# Altium footprint library CONNECTOR.PCBLIB: 232 footprints (part 12 of 15)
Each footprint in its own frame and in the unit in brackets; x right, y up, seen from the top. Pads: shape width x height; smd on the part's side, far side on the other; paste and mask are expansions set on the pad; w line width, h text height; cw(c..) or ccw(c..) is an arc to the next point about the centre after c.
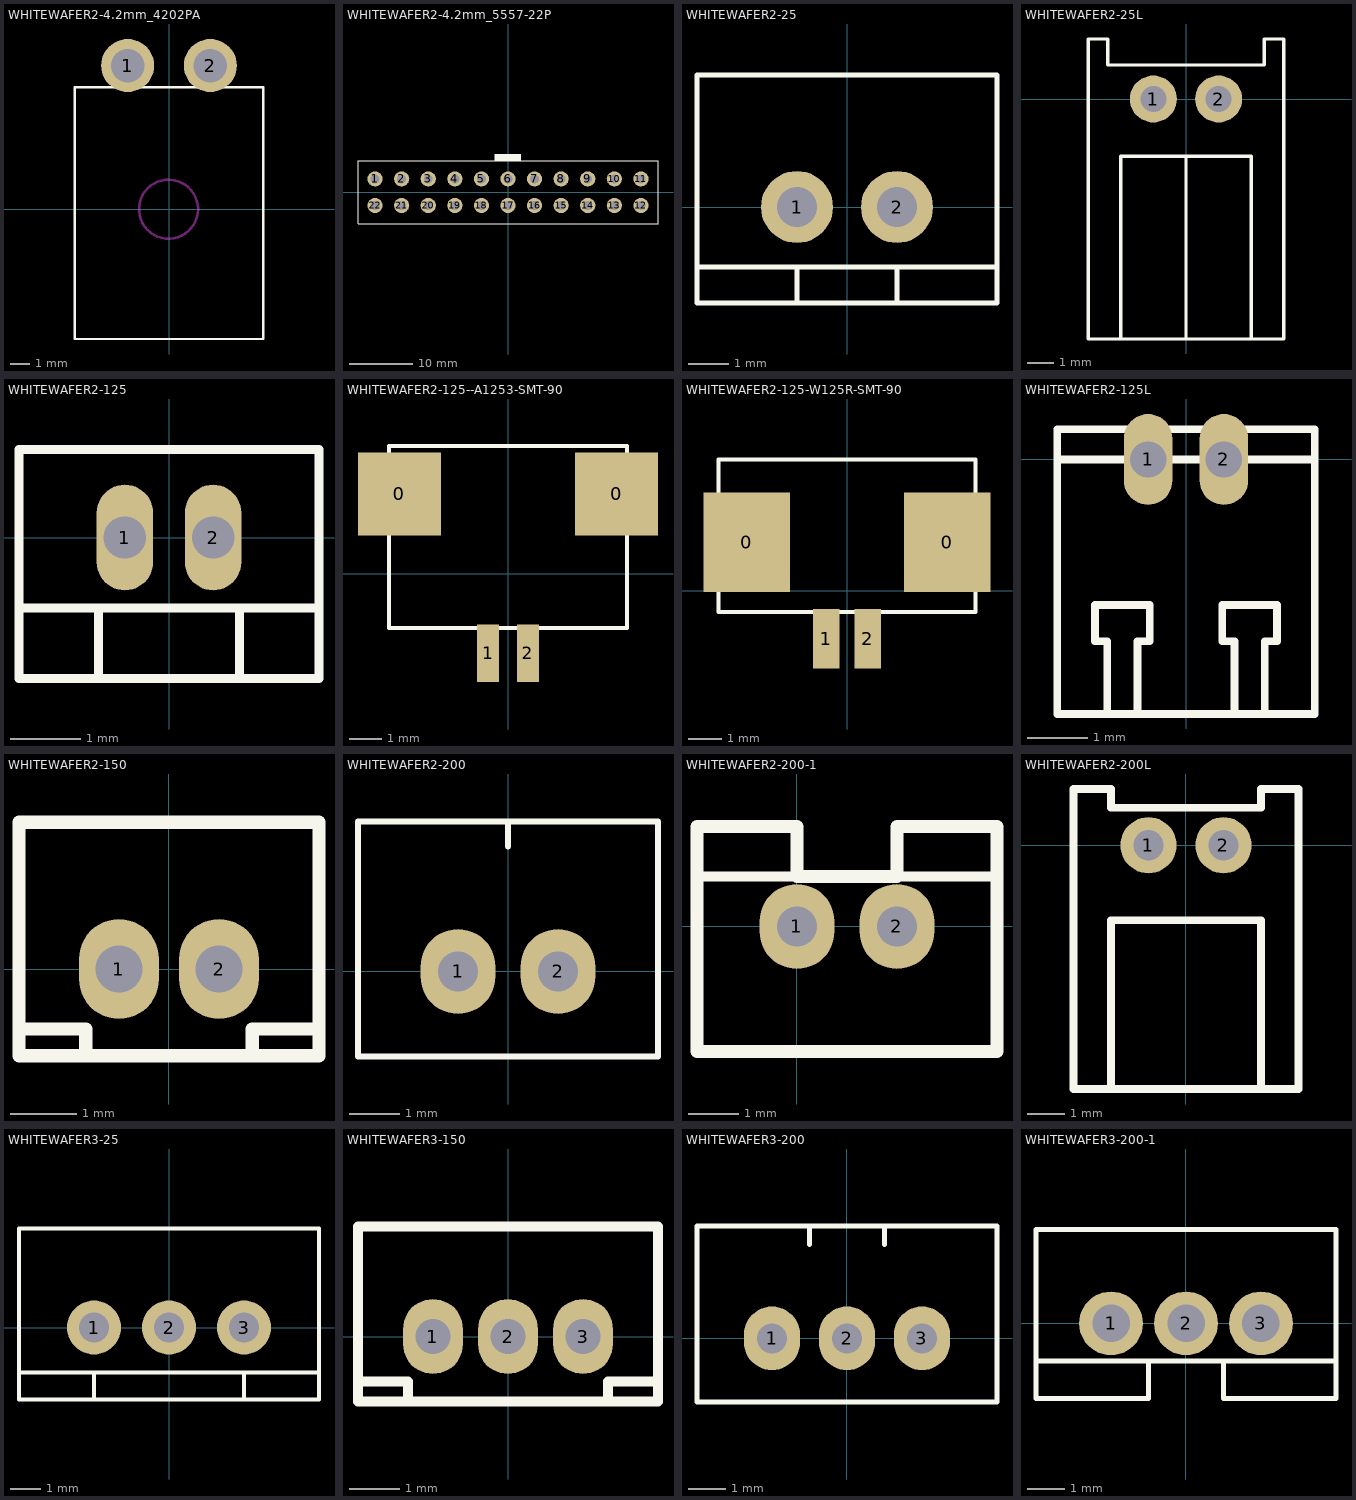
[diagram p11: the footprints below, top view; thin cyan lines are the x and y axes]

## WHITEWAFER2-4.2mm_4202PA [mm] "WHITEWAFER2-4.2mm_4202PA"
pads (2):
  round 2.7 hole 1.7: 1(-2.1,7.3) 2(2.1,7.3)
TopOverlay:
  lines w0.127: -4.8,-6.6 4.8,-6.6 4.8,6.2 -4.8,6.2 -4.8,-6.6
KeepOutLayer:
  circle w0.127: c-0.025,0 r1.5

## WHITEWAFER2-4.2mm_5557-22P [mm] "WHITEWAFER2-4.2mm_5557-22P"
pads (22):
  round 2.4 hole 1.4: 1(-21,2.1) 2(-16.8,2.1) 3(-12.6,2.1) 4(-8.4,2.1) 5(-4.2,2.1) 6(0,2.1) 7(4.2,2.1) 8(8.4,2.1) 9(12.6,2.1) 10(16.8,2.1) 11(21,2.1) 12(21,-2.1) 13(16.8,-2.1) 14(12.6,-2.1) 15(8.4,-2.1) 16(4.2,-2.1) 17(0,-2.1) 18(-4.2,-2.1) 19(-8.4,-2.1) 20(-12.6,-2.1) 21(-16.8,-2.1) 22(-21,-2.1)
TopOverlay:
  rectangle: -2,5 1.95,6
  lines w0.127: -2,5 -2,6 2,6 2,5 ; -23.7,-5 -23.7,5 23.7,5 23.7,-5 -23.7,-5

## WHITEWAFER2-25 [mm]
pads (2):
  round 1.8 hole 1: 1(-1.25,0) 2(1.25,0)
TopOverlay:
  lines w0.127: -3.75,-1.5 -1.25,-1.5 ; -1.25,-2.4 -1.25,-1.5 ; 1.25,-2.4 1.25,-1.5 ; 3.75,-1.5 -1.25,-1.5 ; -3.75,-2.4 3.75,-2.4 3.75,3.3 -3.75,3.3 -3.75,-2.4

## WHITEWAFER2-25L [mm]
pads (2):
  round 1.8 hole 1: 1(-1.25,0) 2(1.25,0)
TopOverlay:
  lines w0.127: -2.5,-9.2 -2.5,-2.2 2.5,-2.2 2.5,-9.2 ; 0,-9.2 0,-2.2 ; -3.75,-9.2 -3.75,2.3 -3,2.3 -3,1.3 3,1.3 3,2.3 3.75,2.3 3.75,-9.2 -3.75,-9.2

## WHITEWAFER2-125 [mm]
pads (2):
  oval 0.8x1.5 hole 0.6: 1(-0.625,0) 2(0.625,0)
TopOverlay:
  lines w0.127: -2.125,-1 2.125,-1 ; -1,-1 -1,-2 ; 1,-1 1,-2 ; -1,-2 1,-2 ; -1,-2 -2.125,-2 -2.125,1.25 2.125,1.25 2.125,-2 1,-2

## WHITEWAFER2-125--A1253-SMT-90 [mm]
pads (4):
  rect 2.6x2.6 smd: 0(-3.4,2.5) 0(3.4,2.5)
  rect 0.7x1.8 smd: 1(-0.625,-2.5) 2(0.625,-2.5)
TopOverlay:
  lines w0.127: -3.725,-1.7 -3.725,4 3.725,4 3.725,-1.7 -3.725,-1.7

## WHITEWAFER2-125-W125R-SMT-90 [mm]
pads (4):
  rect 2.6x3 smd: 0(-3.025,1.45) 0(3.025,1.45)
  rect 0.8x1.8 smd: 1(-0.625,-1.45) 2(0.625,-1.45)
TopOverlay:
  lines w0.127: -3.875,-0.65 -3.875,3.95 3.875,3.95 3.875,-0.65 -3.875,-0.65

## WHITEWAFER2-125L [mm]
pads (2):
  oval 0.8x1.5 hole 0.6: 1(-0.625,0) 2(0.625,0)
TopOverlay:
  lines w0.127: -1.3,-4.2 -1.3,-3 -1.5,-3 -1.5,-2.4 -0.6,-2.4 -0.6,-3 -0.8,-3 -0.8,-4.2 ; 0.8,-4.2 0.8,-3 0.6,-3 0.6,-2.4 1.5,-2.4 1.5,-3 1.3,-3 1.3,-4.2 ; -2.125,0 -2.125,-4.2 2.125,-4.2 2.125,0 ; -2.125,0 2.125,0 ; -2.125,0 -2.125,0.5 2.125,0.5 2.125,0

## WHITEWAFER2-150 [mm]
pads (2):
  oval 1.2x1.5 hole 0.7: 1(-0.75,0) 2(0.75,0)
TopOverlay:
  lines w0.2: -2.25,-0.9 -1.25,-0.9 -1.25,-1.3 ; 1.25,-1.3 1.25,-0.9 2.25,-0.9 ; -2.25,-1.3 -2.25,2.2 2.25,2.2 2.25,-1.3 -2.25,-1.3

## WHITEWAFER2-200 [mm]
pads (2):
  oval 1.5x1.7 hole 0.8: 1(-1,0) 2(1,0)
TopOverlay:
  lines w0.127: 0,2.5 0,3 ; -3,-1.7 -3,3 3,3 3,-1.7 -3,-1.7

## WHITEWAFER2-200-1 [mm]
pads (2):
  oval 1.5x1.7 hole 0.8: 1(0,0) 2(2,0)
TopOverlay:
  lines w0.203: -2,1 4,1
  lines w0.254: -2,-2.5 -2,2 0,2 0,1 2,1 2,2 4,2 4,-2.5 -2,-2.5

## WHITEWAFER2-200L [mm]
pads (2):
  round 1.5 hole 0.8: 1(-1,0) 2(1,0)
TopOverlay:
  lines w0.203: -2,-6.5 -2,-2 2,-2 2,-6.5 ; -3,-6.5 3,-6.5 3,1.5 2,1.5 2,1 -2,1 -2,1.5 -3,1.5 -3,0 -3,-6.5

## WHITEWAFER3-25 [mm]
pads (3):
  round 1.8 hole 1: 1(-2.5,0) 2(0,0) 3(2.5,0)
TopOverlay:
  lines w0.127: -5,-1.5 -2.5,-1.5 ; -2.5,-2.4 -2.5,-1.5 ; 2.5,-2.4 2.5,-1.503 ; 5,-1.5 -2.5,-1.5 ; -5,-2.4 5,-2.4 5,3.3 -5,3.3 -5,-2.4

## WHITEWAFER3-150 [mm]
pads (3):
  oval 1.2x1.5 hole 0.7: 1(-1.5,0) 2(0,0) 3(1.5,0)
TopOverlay:
  lines w0.2: -3,-0.9 -2,-0.9 -2,-1.3 ; 2,-1.3 2,-0.9 3,-0.9 ; -3,-1.3 -3,2.2 3,2.2 3,-1.3 -3,-1.3

## WHITEWAFER3-200 [mm]
pads (3):
  oval 1.5x1.7 hole 0.8: 1(-2,0) 2(0,0) 3(2,0)
TopOverlay:
  lines w0.127: -1,2.5 -1,3 ; 1,2.5 1,3 ; -4,-1.7 -4,3 4,3 4,-1.7 -4,-1.7

## WHITEWAFER3-200-1 [mm]
pads (3):
  round 1.7 hole 1: 1(-2,0) 2(0,0) 3(2,0)
TopOverlay:
  lines w0.127: -4,-1 -1,-1 ; 1,-1 1,-2 4,-2 4,2.5 -4,2.5 -4,-2 -1,-2 -1,-1 ; 4,-1 -1,-1